# Altium footprint library IC-SMD.PCBLIB: 298 footprints (part 7 of 19)
Each footprint in its own frame and in the unit in brackets; x right, y up, seen from the top. Pads: shape width x height; smd on the part's side, far side on the other; paste and mask are expansions set on the pad; w line width, h text height; cw(c..) or ccw(c..) is an arc to the next point about the centre after c.
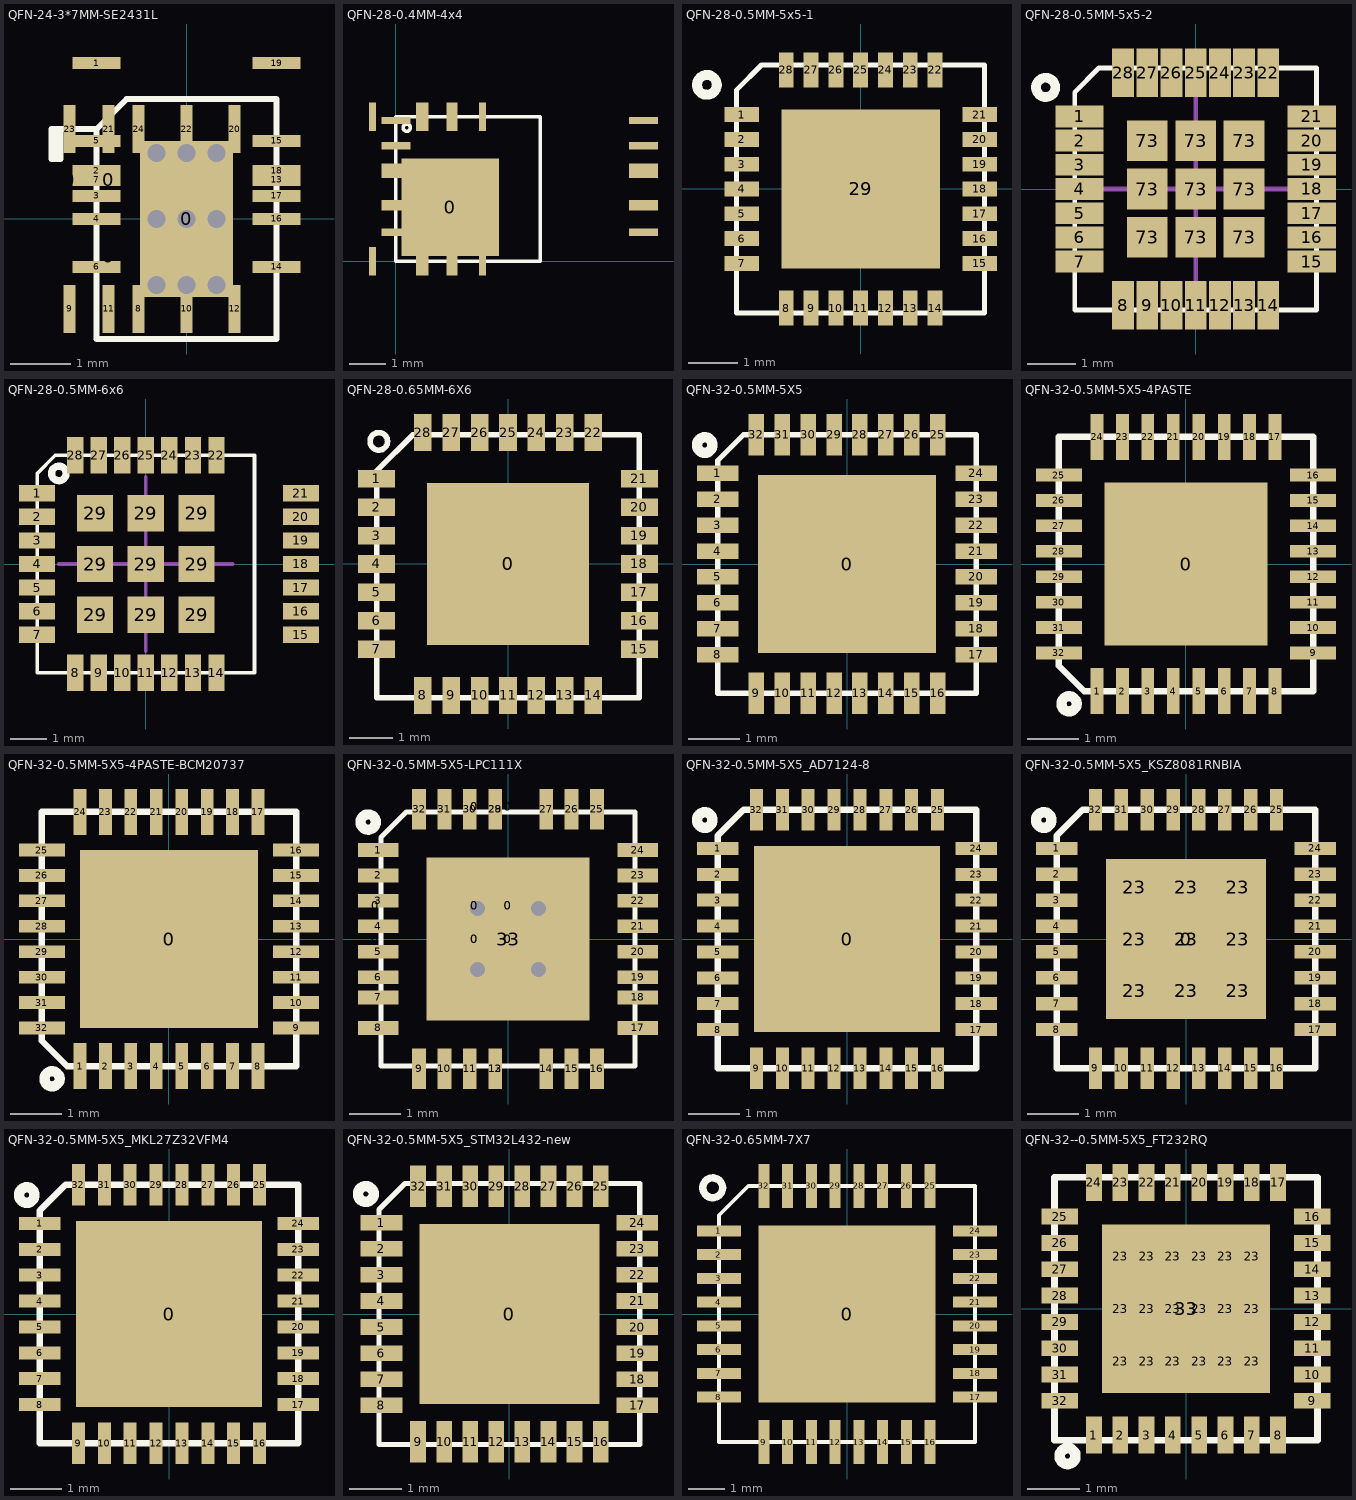
[diagram p6: the footprints below, top view; thin cyan lines are the x and y axes]

## QFN-24-3*7MM-SE2431L [mm]
pads (29):
  rect 0.58x1.08 on Top Paste: 0(-1.95,-0.625) 0(-1.95,0.65) 0(-1.3,-0.625) 0(-1.3,0.65)
  rect 1.55x2.6 smd: 0(0,0)
  rect 0.8x0.2 smd: 1(-1.5,2.6) 2(-1.5,0.8) 3(-1.5,0.385) 4(-1.5,0) 5(-1.5,1.3) 6(-1.5,-0.8) 7(-1.5,0.65) 13(1.5,0.65) 14(1.5,-0.8) 15(1.5,1.3) 16(1.5,0) 17(1.5,0.385) 18(1.5,0.8) 19(1.5,2.6)
  rect 0.2x0.8 smd: 8(-0.8,-1.5) 9(-1.95,-1.5) 10(0,-1.5) 11(-1.3,-1.5) 12(0.8,-1.5) 20(0.8,1.5) 21(-1.3,1.5) 22(0,1.5) 23(-1.95,1.5) 24(-0.8,1.5)
via 0,0 diameter 0.4 hole 0.3
via 0.5,0 diameter 0.4 hole 0.3
via -0.5,0 diameter 0.4 hole 0.3
via 0,-1.1 diameter 0.4 hole 0.3
via -0.5,-1.1 diameter 0.4 hole 0.3
via 0.5,-1.1 diameter 0.4 hole 0.3
via 0.5,1.1 diameter 0.4 hole 0.3
via 0,1.1 diameter 0.4 hole 0.3
via -0.5,1.1 diameter 0.4 hole 0.3
TopOverlay:
  rectangle: -2.25,1 -2.1,1.5
  lines w0.1: -2.1,1.5 -2.1,1 -2.25,1 -2.25,1.5 -1.5,1.5 ; -1.5,1.5 -1,2 1.5,2 1.5,-2 -1.5,-2 -1.5,1.5

## QFN-28-0.4MM-4x4 [mm] "QFN-28-0.4MM-4x4"
pads (29):
  rect 2.7x2.7 smd: 0(1.5,1.5)
  rect 0.8x0.2 smd: 1(0,3.2) 2(0,3.9) 3(0,2.4) 4(0,1.5) 5(0,1.6) 6(0,2.6) 7(0,0.8) 15(6.86,0.8) 16(6.86,2.6) 17(6.86,1.6) 18(6.86,1.5) 19(6.86,2.4) 20(6.86,3.9) 21(6.86,3.2)
  rect 0.2x0.8 smd: 8(0.8,0) 9(-0.65,0) 10(1.6,0) 11(1.5,0) 12(2.4,0) 13(0.65,0) 14(0.65,0) 22(0.65,4) 23(0.65,4) 24(2.4,4) 25(1.5,4) 26(1.6,4) 27(-0.65,4) 28(0.8,4)
TopOverlay:
  circle w0.1: c0.3,3.7 r0.1
  lines w0.1: 0,0 0,4 4,4 4,0 0,0

## QFN-28-0.5MM-5x5-1 [mm]
pads (29):
  rect 0.7x0.3 smd: 1(-2.4,1.5) 2(-2.4,1) 3(-2.4,0.5) 4(-2.4,0) 5(-2.4,-0.5) 6(-2.4,-1) 7(-2.4,-1.5) 15(2.4,-1.5) 16(2.4,-1) 17(2.4,-0.5) 18(2.4,0) 19(2.4,0.5) 20(2.4,1) 21(2.4,1.5)
  rect 0.3x0.7 smd: 8(-1.5,-2.4) 9(-1,-2.4) 10(-0.5,-2.4) 11(0,-2.4) 12(0.5,-2.4) 13(1,-2.4) 14(1.5,-2.4) 22(1.5,2.4) 23(1,2.4) 24(0.5,2.4) 25(0,2.4) 26(-0.5,2.4) 27(-1,2.4) 28(-1.5,2.4)
  rect 3.2x3.2 smd: 29(0,0)
TopOverlay:
  circle w0.2: c-3.1,2.1 r0.2
  lines w0.1: -2.5,-2.5 -2.5,2 -2,2.5 2.5,2.5 2.5,-2.5 -2.5,-2.5
TopSolder:
  rectangle: 0.7,0.7 1.7,1.7
  rectangle: -0.5,-0.5 0.5,0.5
  rectangle: -0.5,-1.7 0.5,-0.7
  rectangle: -1.7,-0.5 -0.7,0.5
  rectangle: 0.7,-0.5 1.7,0.5
  rectangle: 0.7,-1.7 1.7,-0.7
  rectangle: -1.7,-1.7 -0.7,-0.7
  rectangle: -0.5,0.7 0.5,1.7
  rectangle: -1.7,0.7 -0.7,1.7

## QFN-28-0.5MM-5x5-2 [mm]
pads (37):
  rect 1x0.45 smd: 1(-2.4,1.5) 2(-2.4,1) 3(-2.4,0.5) 4(-2.4,0) 5(-2.4,-0.5) 6(-2.4,-1) 7(-2.4,-1.5) 15(2.4,-1.5) 16(2.4,-1) 17(2.4,-0.5) 18(2.4,0) 19(2.4,0.5) 20(2.4,1) 21(2.4,1.5)
  rect 0.45x1 smd: 8(-1.5,-2.4) 9(-1,-2.4) 10(-0.5,-2.4) 11(0,-2.4) 12(0.5,-2.4) 13(1,-2.4) 14(1.5,-2.4) 22(1.5,2.4) 23(1,2.4) 24(0.5,2.4) 25(0,2.4) 26(-0.5,2.4) 27(-1,2.4) 28(-1.5,2.4)
  rect 0.84x0.84 smd: 73(-1,-1) 73(-1,0) 73(-1,1) 73(0,-1) 73(0,0) 73(0,1) 73(1,-1) 73(1,0) 73(1,1)
TopOverlay:
  circle w0.2: c-3.1,2.1 r0.2
  lines w0.1: -2.5,-2.5 2.5,-2.5 2.5,2.5 -2,2.5 -2.5,2 -2.5,-2.5
Mechanical1:
  lines w0.1: -2.4,0 2.4,0 ; 0,-2.4 0,2.4

## QFN-28-0.5MM-6x6 [mm]
pads (37):
  rect 1x0.45 smd: 1(-3,1.95) 2(-3,1.3) 3(-3,0.65) 4(-3,0) 5(-3,-0.65) 6(-3,-1.3) 7(-3,-1.95) 15(4.28,-1.95) 16(4.28,-1.3) 17(4.28,-0.65) 18(4.28,0) 19(4.28,0.65) 20(4.28,1.3) 21(4.28,1.95)
  rect 0.45x1 smd: 8(-1.95,-3) 9(-1.3,-3) 10(-0.65,-3) 11(0,-3) 12(0.65,-3) 13(1.3,-3) 14(1.95,-3) 22(1.95,3) 23(1.3,3) 24(0.65,3) 25(0,3) 26(-0.65,3) 27(-1.3,3) 28(-1.95,3)
  rect 1x1 smd: 29(-1.4,-1.4) 29(-1.4,0) 29(-1.4,1.4) 29(0,-1.4) 29(0,0) 29(0,1.4) 29(1.4,-1.4) 29(1.4,0) 29(1.4,1.4)
TopOverlay:
  circle w0.2: c-2.4,2.5 r0.2
  lines w0.1: -3,-3 3,-3 3,3 -2.5,3 -3,2.5 -3,-3
Mechanical1:
  lines w0.1: -2.4,0 2.4,0 ; 0,-2.4 0,2.4

## QFN-28-0.65MM-6X6 [mm] "QFN-28-0.65MM-6X6"
pads (29):
  rect 3.7x3.7 smd: 0(0,0)
  rect 0.85x0.4 smd: 1(-3,1.95) 2(-3,1.3) 3(-3,0.65) 4(-3,0) 5(-3,-0.65) 6(-3,-1.3) 7(-3,-1.95) 15(3,-1.95) 16(3,-1.3) 17(3,-0.65) 18(3,0) 19(3,0.65) 20(3,1.3) 21(3,1.95)
  rect 0.4x0.85 smd: 8(-1.95,-3) 9(-1.3,-3) 10(-0.65,-3) 11(0,-3) 12(0.65,-3) 13(1.3,-3) 14(1.95,-3) 22(1.95,3) 23(1.3,3) 24(0.65,3) 25(0,3) 26(-0.65,3) 27(-1.3,3) 28(-1.95,3)
TopOverlay:
  circle w0.127: c-2.95,2.8 r0.2
  lines w0.127: -3,-3.05 3,-3.05 3,2.95 -2.175,2.95 -3,2.125 -3,-3.05

## QFN-32-0.5MM-5X5 [mm] "QFN-32-0.5MM-5X5"
pads (33):
  rect 3.45x3.45 smd: 0(0,0)
  rect 0.8x0.3 smd: 1(-2.5,1.75) 2(-2.5,1.25) 3(-2.5,0.75) 4(-2.5,0.25) 5(-2.5,-0.25) 6(-2.5,-0.75) 7(-2.5,-1.25) 8(-2.5,-1.75) 17(2.5,-1.75) 18(2.5,-1.25) 19(2.5,-0.75) 20(2.5,-0.25) 21(2.5,0.25) 22(2.5,0.75) 23(2.5,1.25) 24(2.5,1.75)
  rect 0.3x0.8 smd: 9(-1.75,-2.5) 10(-1.25,-2.5) 11(-0.75,-2.5) 12(-0.25,-2.5) 13(0.25,-2.5) 14(0.75,-2.5) 15(1.25,-2.5) 16(1.75,-2.5) 25(1.75,2.5) 26(1.25,2.5) 27(0.75,2.5) 28(0.25,2.5) 29(-0.25,2.5) 30(-0.75,2.5) 31(-1.25,2.5) 32(-1.75,2.5)
TopOverlay:
  circle w0.2: c-2.75,2.3 r0.15
  lines w0.1: -2.5,-2.5 -2.5,2 -2,2.5 2.5,2.5 2.5,-2.5 -2.5,-2.5

## QFN-32-0.5MM-5X5-4PASTE [mm]
pads (33):
  rect 3.2x3.2 smd paste-10: 0(0,0)
  rect 0.25x0.9 smd: 1(-1.75,-2.5) 2(-1.25,-2.5) 3(-0.75,-2.5) 4(-0.25,-2.5) 5(0.25,-2.5) 6(0.75,-2.5) 7(1.25,-2.5) 8(1.75,-2.5) 17(1.75,2.5) 18(1.25,2.5) 19(0.75,2.5) 20(0.25,2.5) 21(-0.25,2.5) 22(-0.75,2.5) 23(-1.25,2.5) 24(-1.75,2.5)
  rect 0.9x0.25 smd: 9(2.5,-1.75) 10(2.5,-1.25) 11(2.5,-0.75) 12(2.5,-0.25) 13(2.5,0.25) 14(2.5,0.75) 15(2.5,1.25) 16(2.5,1.75) 25(-2.5,1.75) 26(-2.5,1.25) 27(-2.5,0.75) 28(-2.5,0.25) 29(-2.5,-0.25) 30(-2.5,-0.75) 31(-2.5,-1.25) 32(-2.5,-1.75)
TopOverlay:
  circle w0.2: c-2.3,-2.75 r0.15
  lines w0.127: -2.5,-2 -2.5,2.5 2.5,2.5 2.5,-2.5 -2,-2.5 -2.5,-2
TopPaste:
  region: 0.152,-0.15 0.152,-1.6 1.602,-1.6 1.602,-0.15
  region: -1.6,1.598 -1.6,0.148 -0.15,0.148 -0.15,1.598
  region: 0.152,1.6 0.152,0.15 1.602,0.15 1.602,1.6
  region: -0.15,-1.598 -0.15,-0.148 -1.6,-0.148 -1.6,-1.598

## QFN-32-0.5MM-5X5-4PASTE-BCM20737 [mm] "QFN-32-0.5MM-5X5-4PASTE-BCM20737"
pads (33):
  rect 3.5x3.5 smd paste-10: 0(0,0)
  rect 0.25x0.9 smd: 1(-1.75,-2.5) 2(-1.25,-2.5) 3(-0.75,-2.5) 4(-0.25,-2.5) 5(0.25,-2.5) 6(0.75,-2.5) 7(1.25,-2.5) 8(1.75,-2.5) 17(1.75,2.5) 18(1.25,2.5) 19(0.75,2.5) 20(0.25,2.5) 21(-0.25,2.5) 22(-0.75,2.5) 23(-1.25,2.5) 24(-1.75,2.5)
  rect 0.9x0.25 smd: 9(2.5,-1.75) 10(2.5,-1.25) 11(2.5,-0.75) 12(2.5,-0.25) 13(2.5,0.25) 14(2.5,0.75) 15(2.5,1.25) 16(2.5,1.75) 25(-2.5,1.75) 26(-2.5,1.25) 27(-2.5,0.75) 28(-2.5,0.25) 29(-2.5,-0.25) 30(-2.5,-0.75) 31(-2.5,-1.25) 32(-2.5,-1.75)
TopOverlay:
  circle w0.2: c-2.3,-2.75 r0.15
  lines w0.127: -2.5,-2 -2.5,2.5 2.5,2.5 2.5,-2.5 -2,-2.5 -2.5,-2
TopPaste:
  region: 0.152,-0.15 0.152,-1.75 1.75,-1.75 1.75,-0.15
  region: -1.75,1.75 -1.75,0.148 -0.15,0.148 -0.15,1.75
  region: 0.152,1.75 0.152,0.15 1.75,0.15 1.75,1.75
  region: -0.15,-1.75 -0.15,-0.148 -1.75,-0.148 -1.75,-1.75

## QFN-32-0.5MM-5X5-LPC111X [mm]
pads (51):
  oval 0.3x0.6 on Top Paste: 0(-2.6,0) 0(-2.6,0) 0(-2.6,0.65) 0(-2.6,0.65) 0(-2.6,2.6) 0(-2.6,2.6) 0(-0.65,0) 0(-0.65,0) 0(-0.65,0.65) 0(-0.65,0.65) 0(-0.65,2.6) 0(-0.65,2.6) 0(0,0) 0(0,0) 0(0,0.65) 0(0,0.65) 0(0,2.6) 0(0,2.6)
  rect 0.8x0.27 smd: 1(-2.55,1.75) 2(-2.55,1.25) 3(-2.55,0.75) 4(-2.55,0.25) 5(-2.55,-0.25) 6(-2.55,-0.75) 7(-2.55,-1.15) 8(-2.55,-1.75) 17(2.55,-1.75) 18(2.55,-1.15) 19(2.55,-0.75) 20(2.55,-0.25) 21(2.55,0.25) 22(2.55,0.75) 23(2.55,1.25) 24(2.55,1.75)
  rect 0.27x0.8 smd: 9(-1.75,-2.55) 10(-1.25,-2.55) 11(-0.75,-2.55) 12(-0.25,-2.55) 13(-0.25,-2.55) 14(0.75,-2.55) 15(1.25,-2.55) 16(1.75,-2.55) 25(1.75,2.55) 26(1.25,2.55) 27(0.75,2.55) 28(-0.25,2.55) 29(-0.25,2.55) 30(-0.75,2.55) 31(-1.25,2.55) 32(-1.75,2.55)
  rect 3.2x3.2 smd: 33(0,0)
via -0.6,-0.6 diameter 0.6 hole 0.3
via 0.6,0.6 diameter 0.6 hole 0.3
via 0.6,-0.6 diameter 0.6 hole 0.3
via -0.6,0.6 diameter 0.6 hole 0.3
TopOverlay:
  circle w0.2: c-2.75,2.3 r0.15
  lines w0.1: -2.5,-2.5 2.5,-2.5 2.5,2.5 -2,2.5 -2.5,2 -2.5,-2.5
TopSolder:
  rectangle: -0.3,-1.65 0.3,1.675
  rectangle: -1.65,0.9 1.65,1.675
  rectangle: -1.65,-0.3 1.65,0.3
  rectangle: -1.65,-1.65 1.625,-0.9
  rectangle: 0.9,-1.65 1.65,1.675
  rectangle: -1.65,-1.65 -0.9,1.675

## QFN-32-0.5MM-5X5_AD7124-8 [mm] "FN-32-0.5MM-5X5_AD7124-8"
pads (33):
  rect 3.6x3.6 smd mask+0.05: 0(0,0)
  rect 0.8x0.25 smd: 1(-2.5,1.75) 2(-2.5,1.25) 3(-2.5,0.75) 4(-2.5,0.25) 5(-2.5,-0.25) 6(-2.5,-0.75) 7(-2.5,-1.25) 8(-2.5,-1.75) 17(2.5,-1.75) 18(2.5,-1.25) 19(2.5,-0.75) 20(2.5,-0.25) 21(2.5,0.25) 22(2.5,0.75) 23(2.5,1.25) 24(2.5,1.75)
  rect 0.25x0.8 smd: 9(-1.75,-2.5) 10(-1.25,-2.5) 11(-0.75,-2.5) 12(-0.25,-2.5) 13(0.25,-2.5) 14(0.75,-2.5) 15(1.25,-2.5) 16(1.75,-2.5) 25(1.75,2.5) 26(1.25,2.5) 27(0.75,2.5) 28(0.25,2.5) 29(-0.25,2.5) 30(-0.75,2.5) 31(-1.25,2.5) 32(-1.75,2.5)
TopOverlay:
  circle w0.2: c-2.75,2.3 r0.15
  lines w0.127: -2.5,-2.5 -2.5,2 -2,2.5 2.5,2.5 2.5,-2.5 -2.5,-2.5

## QFN-32-0.5MM-5X5_KSZ8081RNBIA [mm] "QFN-32-0.5MM-5X5_KSZ8081RNBIA"
pads (42):
  rect 3.1x3.1 smd paste-10: 0(0,0)
  rect 0.8x0.26 smd: 1(-2.5,1.75) 2(-2.5,1.25) 3(-2.5,0.75) 4(-2.5,0.25) 5(-2.5,-0.25) 6(-2.5,-0.75) 7(-2.5,-1.25) 8(-2.5,-1.75) 17(2.5,-1.75) 18(2.5,-1.25) 19(2.5,-0.75) 20(2.5,-0.25) 21(2.5,0.25) 22(2.5,0.75) 23(2.5,1.25) 24(2.5,1.75)
  rect 0.26x0.8 smd: 9(-1.75,-2.5) 10(-1.25,-2.5) 11(-0.75,-2.5) 12(-0.25,-2.5) 13(0.25,-2.5) 14(0.75,-2.5) 15(1.25,-2.5) 16(1.75,-2.5) 25(1.75,2.5) 26(1.25,2.5) 27(0.75,2.5) 28(0.25,2.5) 29(-0.25,2.5) 30(-0.75,2.5) 31(-1.25,2.5) 32(-1.75,2.5)
  rect 0.8x0.8 on Top Paste: 23(-1,-1) 23(-1,0) 23(-1,1) 23(0,-1) 23(0,0) 23(0,1) 23(1,-1) 23(1,0) 23(1,1)
TopOverlay:
  circle w0.2: c-2.75,2.3 r0.15
  lines w0.127: -2.5,-2.5 2.5,-2.5 2.5,2.5 -2,2.5 -2.5,2 -2.5,-2.5

## QFN-32-0.5MM-5X5_MKL27Z32VFM4 [mm] "QFN-32-0.5MM-5X5_MKL27Z32VFM4"
pads (33):
  rect 3.6x3.6 smd mask+0.05: 0(0,0)
  rect 0.8x0.25 smd: 1(-2.5,1.75) 2(-2.5,1.25) 3(-2.5,0.75) 4(-2.5,0.25) 5(-2.5,-0.25) 6(-2.5,-0.75) 7(-2.5,-1.25) 8(-2.5,-1.75) 17(2.5,-1.75) 18(2.5,-1.25) 19(2.5,-0.75) 20(2.5,-0.25) 21(2.5,0.25) 22(2.5,0.75) 23(2.5,1.25) 24(2.5,1.75)
  rect 0.25x0.8 smd: 9(-1.75,-2.5) 10(-1.25,-2.5) 11(-0.75,-2.5) 12(-0.25,-2.5) 13(0.25,-2.5) 14(0.75,-2.5) 15(1.25,-2.5) 16(1.75,-2.5) 25(1.75,2.5) 26(1.25,2.5) 27(0.75,2.5) 28(0.25,2.5) 29(-0.25,2.5) 30(-0.75,2.5) 31(-1.25,2.5) 32(-1.75,2.5)
TopOverlay:
  circle w0.2: c-2.75,2.3 r0.15
  lines w0.127: -2.5,-2.5 2.5,-2.5 2.5,2.5 -2,2.5 -2.5,2 -2.5,-2.5

## QFN-32-0.5MM-5X5_STM32L432-new [mm] "QFN-32-0.5MM-5X5_STM32L432-new"
pads (33):
  rect 3.45x3.45 smd: 0(0,0)
  rect 0.8x0.3 smd: 1(-2.45,1.75) 2(-2.45,1.25) 3(-2.45,0.75) 4(-2.45,0.25) 5(-2.45,-0.25) 6(-2.45,-0.75) 7(-2.45,-1.25) 8(-2.45,-1.75) 17(2.45,-1.75) 18(2.45,-1.25) 19(2.45,-0.75) 20(2.45,-0.25) 21(2.45,0.25) 22(2.45,0.75) 23(2.45,1.25) 24(2.45,1.75)
  rect 0.3x0.8 smd: 9(-1.75,-2.45) 10(-1.25,-2.45) 11(-0.75,-2.45) 12(-0.25,-2.45) 13(0.25,-2.45) 14(0.75,-2.45) 15(1.25,-2.45) 16(1.75,-2.45) 25(1.75,2.45) 26(1.25,2.45) 27(0.75,2.45) 28(0.25,2.45) 29(-0.25,2.45) 30(-0.75,2.45) 31(-1.25,2.45) 32(-1.75,2.45)
TopOverlay:
  circle w0.2: c-2.75,2.3 r0.15
  lines w0.1: -2.5,-2.5 2.5,-2.5 2.5,2.5 -2,2.5 -2.5,2 -2.5,-2.5

## QFN-32-0.65MM-7X7 [mm]
pads (33):
  rect 4.85x4.85 smd: 0(0,0)
  rect 1.2x0.3 smd: 1(-3.5,2.275) 2(-3.5,1.625) 3(-3.5,0.975) 4(-3.5,0.325) 5(-3.5,-0.325) 6(-3.5,-0.975) 7(-3.5,-1.625) 8(-3.5,-2.275) 17(3.5,-2.275) 18(3.5,-1.625) 19(3.5,-0.975) 20(3.5,-0.325) 21(3.5,0.325) 22(3.5,0.975) 23(3.5,1.625) 24(3.5,2.275)
  rect 0.3x1.2 smd: 9(-2.275,-3.5) 10(-1.625,-3.5) 11(-0.975,-3.5) 12(-0.325,-3.5) 13(0.325,-3.5) 14(0.975,-3.5) 15(1.625,-3.5) 16(2.275,-3.5) 25(2.275,3.5) 26(1.625,3.5) 27(0.975,3.5) 28(0.325,3.5) 29(-0.325,3.5) 30(-0.975,3.5) 31(-1.625,3.5) 32(-2.275,3.5)
TopOverlay:
  circle w0.2: c-3.67,3.45 r0.27
  lines w0.1: -3.5,-3.5 -3.5,2.7 -2.7,3.5 3.5,3.5 3.5,-3.5 -3.5,-3.5

## QFN-32--0.5MM-5X5_FT232RQ [mm] "QFN-32--0.5MM-5X5_FT232RQ"
pads (51):
  rect 0.3x0.7 smd: 1(-1.75,-2.4) 2(-1.25,-2.4) 3(-0.75,-2.4) 4(-0.25,-2.4) 5(0.25,-2.4) 6(0.75,-2.4) 7(1.25,-2.4) 8(1.75,-2.4) 17(1.75,2.4) 18(1.25,2.4) 19(0.75,2.4) 20(0.25,2.4) 21(-0.25,2.4) 22(-0.75,2.4) 23(-1.25,2.4) 24(-1.75,2.4)
  rect 0.7x0.3 smd: 9(2.4,-1.75) 10(2.4,-1.25) 11(2.4,-0.75) 12(2.4,-0.25) 13(2.4,0.25) 14(2.4,0.75) 15(2.4,1.25) 16(2.4,1.75) 25(-2.4,1.75) 26(-2.4,1.25) 27(-2.4,0.75) 28(-2.4,0.25) 29(-2.4,-0.25) 30(-2.4,-0.75) 31(-2.4,-1.25) 32(-2.4,-1.75)
  rect 0.3x0.6 on Top Paste: 23(-1.25,-1) 23(-1.25,0) 23(-1.25,1) 23(-0.75,-1) 23(-0.75,0) 23(-0.75,1) 23(-0.25,-1) 23(-0.25,0) 23(-0.25,1) 23(0.25,-1) 23(0.25,0) 23(0.25,1) 23(0.75,-1) 23(0.75,0) 23(0.75,1) 23(1.25,-1) 23(1.25,0) 23(1.25,1)
  rect 3.2x3.2 smd paste-10: 33(0,0)
TopOverlay:
  circle w0.2: c-2.25,-2.8 r0.15
  lines w0.127: -2.5,-2.5 2.5,-2.5 2.5,2.5 -2.5,2.5 -2.5,-2.5